# Altium schematic symbol library rk3506_core.SchLib: 9 symbols
Pins are listed as number, name and electrical type; pins without a type are passive.

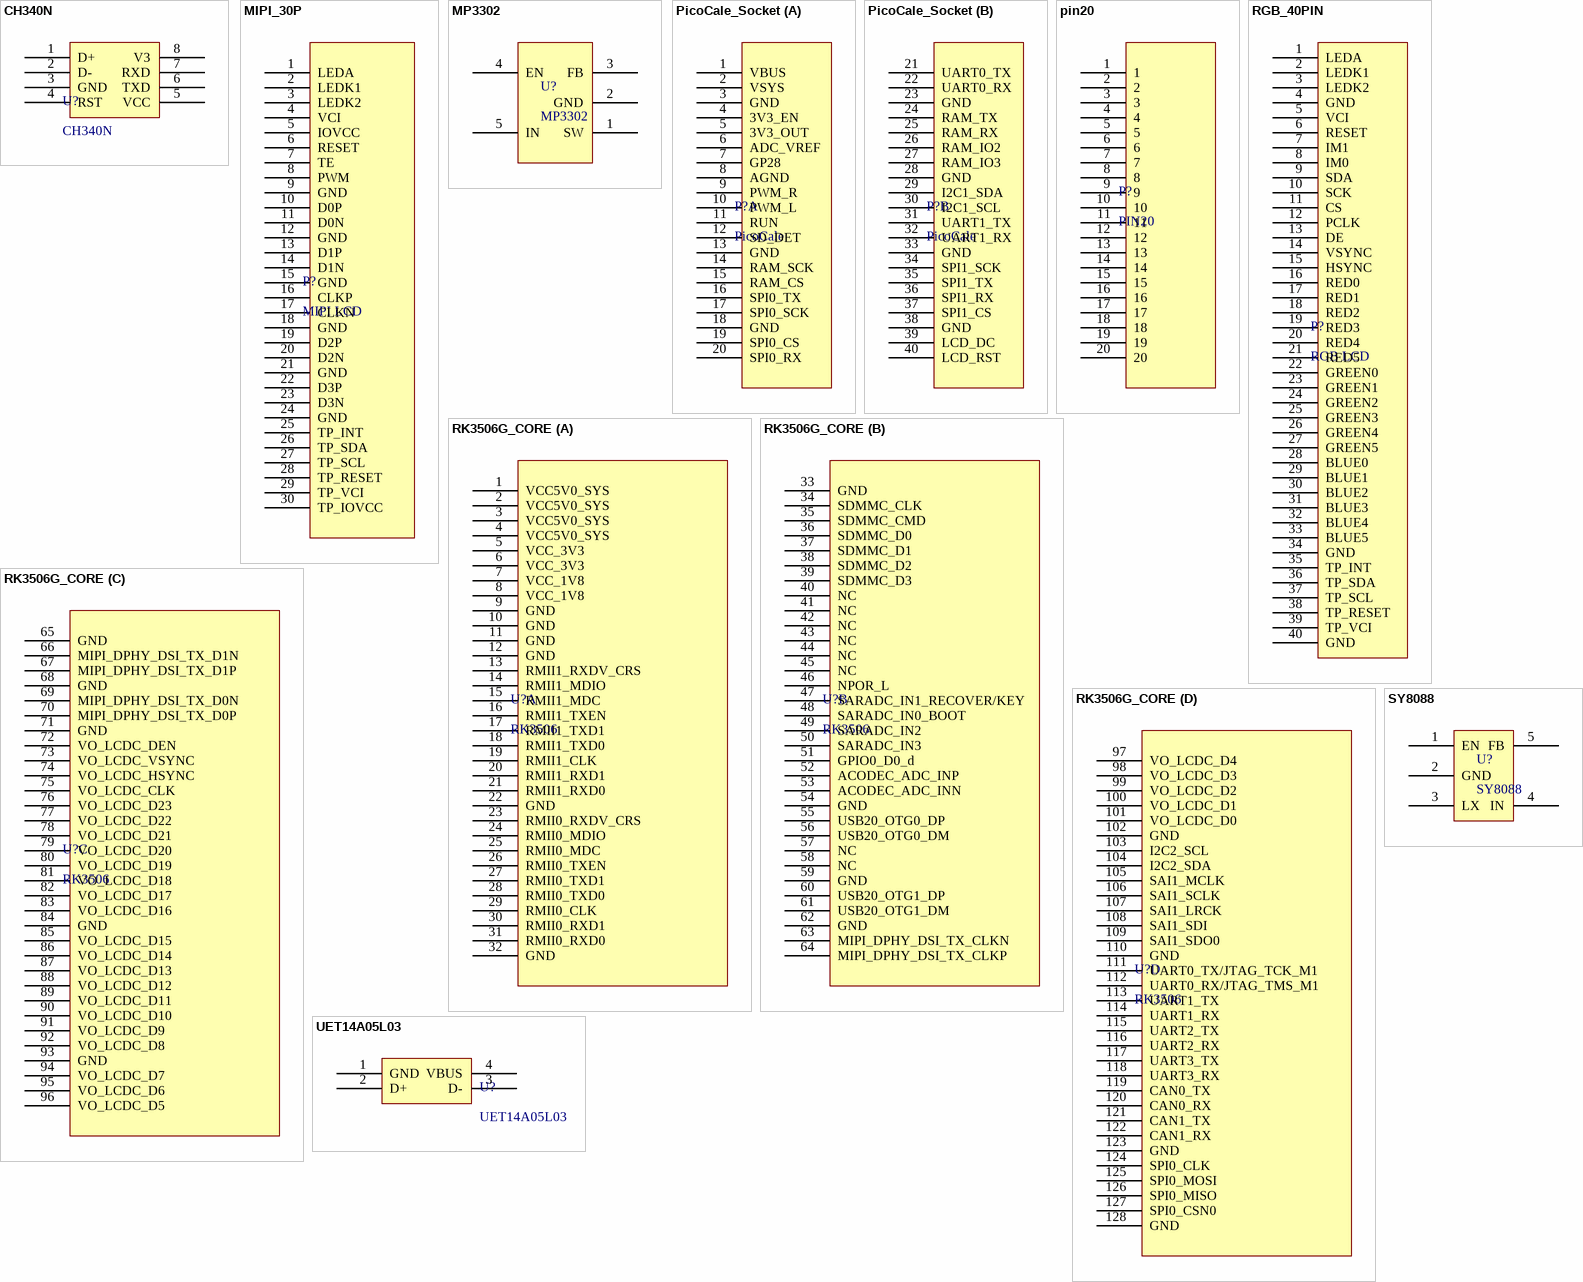
[diagram p0: symbols CH340N to UET14A05L03]

## CH340N
designator U?
pins: 1 D+, 2 D-, 3 GND, 4 RST, 5 VCC, 6 TXD, 7 RXD, 8 V3

## MIPI_30P
designator P?, comment MIPI LCD
pins: 1 LEDA, 2 LEDK1, 3 LEDK2, 4 VCI, 5 IOVCC, 6 RESET, 7 TE, 8 PWM, 9 GND, 10 D0P, 11 D0N, 12 GND, 13 D1P, 14 D1N, 15 GND, 16 CLKP, 17 CLKN, 18 GND, 19 D2P, 20 D2N, 21 GND, 22 D3P, 23 D3N, 24 GND, 25 TP_INT, 26 TP_SDA, 27 TP_SCL, 28 TP_RESET, 29 TP_VCI, 30 TP_IOVCC

## MP3302
designator U?
pins: 1 SW, 2 GND, 3 FB, 4 EN, 5 IN

## PicoCale_Socket
designator P?, comment PicoCale
part A pins: 1 VBUS, 2 VSYS, 3 GND, 4 3V3_EN, 5 3V3_OUT, 6 ADC_VREF, 7 GP28, 8 AGND, 9 PWM_R, 10 PWM_L, 11 RUN, 12 SD_DET, 13 GND, 14 RAM_SCK, 15 RAM_CS, 16 SPI0_TX, 17 SPI0_SCK, 18 GND, 19 SPI0_CS, 20 SPI0_RX
part B pins: 21 UART0_TX, 22 UART0_RX, 23 GND, 24 RAM_TX, 25 RAM_RX, 26 RAM_IO2, 27 RAM_IO3, 28 GND, 29 I2C1_SDA, 30 I2C1_SCL, 31 UART1_TX, 32 UART1_RX, 33 GND, 34 SPI1_SCK, 35 SPI1_TX, 36 SPI1_RX, 37 SPI1_CS, 38 GND, 39 LCD_DC, 40 LCD_RST

## pin20
designator P?, comment PIN20
pins: 1, 2, 3, 4, 5, 6, 7, 8, 9, 10, 11, 12, 13, 14, 15, 16, 17, 18, 19, 20

## RGB_40PIN
designator P?, comment RGB LCD
pins: 1 LEDA, 2 LEDK1, 3 LEDK2, 4 GND, 5 VCI, 6 RESET, 7 IM1, 8 IM0, 9 SDA, 10 SCK, 11 CS, 12 PCLK, 13 DE, 14 VSYNC, 15 HSYNC, 16 RED0, 17 RED1, 18 RED2, 19 RED3, 20 RED4, 21 RED5, 22 GREEN0, 23 GREEN1, 24 GREEN2, 25 GREEN3, 26 GREEN4, 27 GREEN5, 28 BLUE0, 29 BLUE1, 30 BLUE2, 31 BLUE3, 32 BLUE4, 33 BLUE5, 34 GND, 35 TP_INT, 36 TP_SDA, 37 TP_SCL, 38 TP_RESET, 39 TP_VCI, 40 GND

## RK3506G_CORE
designator U?, comment RK3506
part A pins: 1 VCC5V0_SYS, 2 VCC5V0_SYS, 3 VCC5V0_SYS, 4 VCC5V0_SYS, 5 VCC_3V3, 6 VCC_3V3, 7 VCC_1V8, 8 VCC_1V8, 9 GND, 10 GND, 11 GND, 12 GND, 13 RMII1_RXDV_CRS, 14 RMII1_MDIO, 15 RMII1_MDC, 16 RMII1_TXEN, 17 RMII1_TXD1, 18 RMII1_TXD0, 19 RMII1_CLK, 20 RMII1_RXD1, 21 RMII1_RXD0, 22 GND, 23 RMII0_RXDV_CRS, 24 RMII0_MDIO, 25 RMII0_MDC, 26 RMII0_TXEN, 27 RMII0_TXD1, 28 RMII0_TXD0, 29 RMII0_CLK, 30 RMII0_RXD1, 31 RMII0_RXD0, 32 GND
part B pins: 33 GND, 34 SDMMC_CLK, 35 SDMMC_CMD, 36 SDMMC_D0, 37 SDMMC_D1, 38 SDMMC_D2, 39 SDMMC_D3, 40 NC, 41 NC, 42 NC, 43 NC, 44 NC, 45 NC, 46 NPOR_L, 47 SARADC_IN1_RECOVER/KEY, 48 SARADC_IN0_BOOT, 49 SARADC_IN2, 50 SARADC_IN3, 51 GPIO0_D0_d, 52 ACODEC_ADC_INP, 53 ACODEC_ADC_INN, 54 GND, 55 USB20_OTG0_DP, 56 USB20_OTG0_DM, 57 NC, 58 NC, 59 GND, 60 USB20_OTG1_DP, 61 USB20_OTG1_DM, 62 GND, 63 MIPI_DPHY_DSI_TX_CLKN, 64 MIPI_DPHY_DSI_TX_CLKP
part C pins: 65 GND, 66 MIPI_DPHY_DSI_TX_D1N, 67 MIPI_DPHY_DSI_TX_D1P, 68 GND, 69 MIPI_DPHY_DSI_TX_D0N, 70 MIPI_DPHY_DSI_TX_D0P, 71 GND, 72 VO_LCDC_DEN, 73 VO_LCDC_VSYNC, 74 VO_LCDC_HSYNC, 75 VO_LCDC_CLK, 76 VO_LCDC_D23, 77 VO_LCDC_D22, 78 VO_LCDC_D21, 79 VO_LCDC_D20, 80 VO_LCDC_D19, 81 VO_LCDC_D18, 82 VO_LCDC_D17, 83 VO_LCDC_D16, 84 GND, 85 VO_LCDC_D15, 86 VO_LCDC_D14, 87 VO_LCDC_D13, 88 VO_LCDC_D12, 89 VO_LCDC_D11, 90 VO_LCDC_D10, 91 VO_LCDC_D9, 92 VO_LCDC_D8, 93 GND, 94 VO_LCDC_D7, 95 VO_LCDC_D6, 96 VO_LCDC_D5
part D pins: 97 VO_LCDC_D4, 98 VO_LCDC_D3, 99 VO_LCDC_D2, 100 VO_LCDC_D1, 101 VO_LCDC_D0, 102 GND, 103 I2C2_SCL, 104 I2C2_SDA, 105 SAI1_MCLK, 106 SAI1_SCLK, 107 SAI1_LRCK, 108 SAI1_SDI, 109 SAI1_SDO0, 110 GND, 111 UART0_TX/JTAG_TCK_M1, 112 UART0_RX/JTAG_TMS_M1, 113 UART1_TX, 114 UART1_RX, 115 UART2_TX, 116 UART2_RX, 117 UART3_TX, 118 UART3_RX, 119 CAN0_TX, 120 CAN0_RX, 121 CAN1_TX, 122 CAN1_RX, 123 GND, 124 SPI0_CLK, 125 SPI0_MOSI, 126 SPI0_MISO, 127 SPI0_CSN0, 128 GND

## SY8088
designator U?
pins: 1 EN, 2 GND, 3 LX, 4 IN, 5 FB

## UET14A05L03
designator U?
pins: 1 GND, 2 D+, 3 D-, 4 VBUS